# Altium schematic symbol library MC22XS4200.SchLib: 1 symbol
Pins are listed as number, name and electrical type; pins without a type are passive.

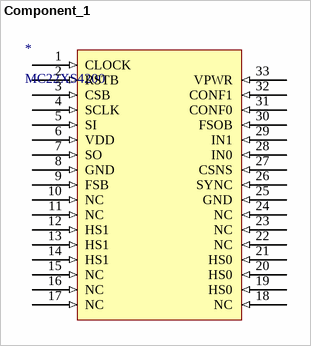
[diagram p0: symbol Component_1]

## Component_1
designator *, comment MC22XS4200
footprint SOP-32/11.8x1.27
pins: 1 CLOCK (in), 2 RSTB (in), 3 CSB (in), 4 SCLK (in), 5 SI (in), 6 VDD (in), 7 SO (in), 8 GND (in), 9 FSB (in), 10 NC (in), 11 NC (in), 12 HS1 (in), 13 HS1 (in), 14 HS1 (in), 15 NC (in), 16 NC (in), 17 NC (in), 18 NC (in), 19 HS0 (in), 20 HS0 (in), 21 HS0 (in), 22 NC (in), 23 NC (in), 24 NC (in), 25 GND (in), 26 SYNC (in), 27 CSNS (in), 28 IN0 (in), 29 IN1 (in), 30 FSOB (in), 31 CONF0 (in), 32 CONF1 (in), 33 VPWR (in)